# Altium footprint library MIT_Pcblib.PcbLib: 41 footprints (part 3 of 3)
Each footprint in its own frame and in the unit in brackets; x right, y up, seen from the top. Pads: shape width x height; smd on the part's side, far side on the other; paste and mask are expansions set on the pad; w line width, h text height; cw(c..) or ccw(c..) is an arc to the next point about the centre after c.
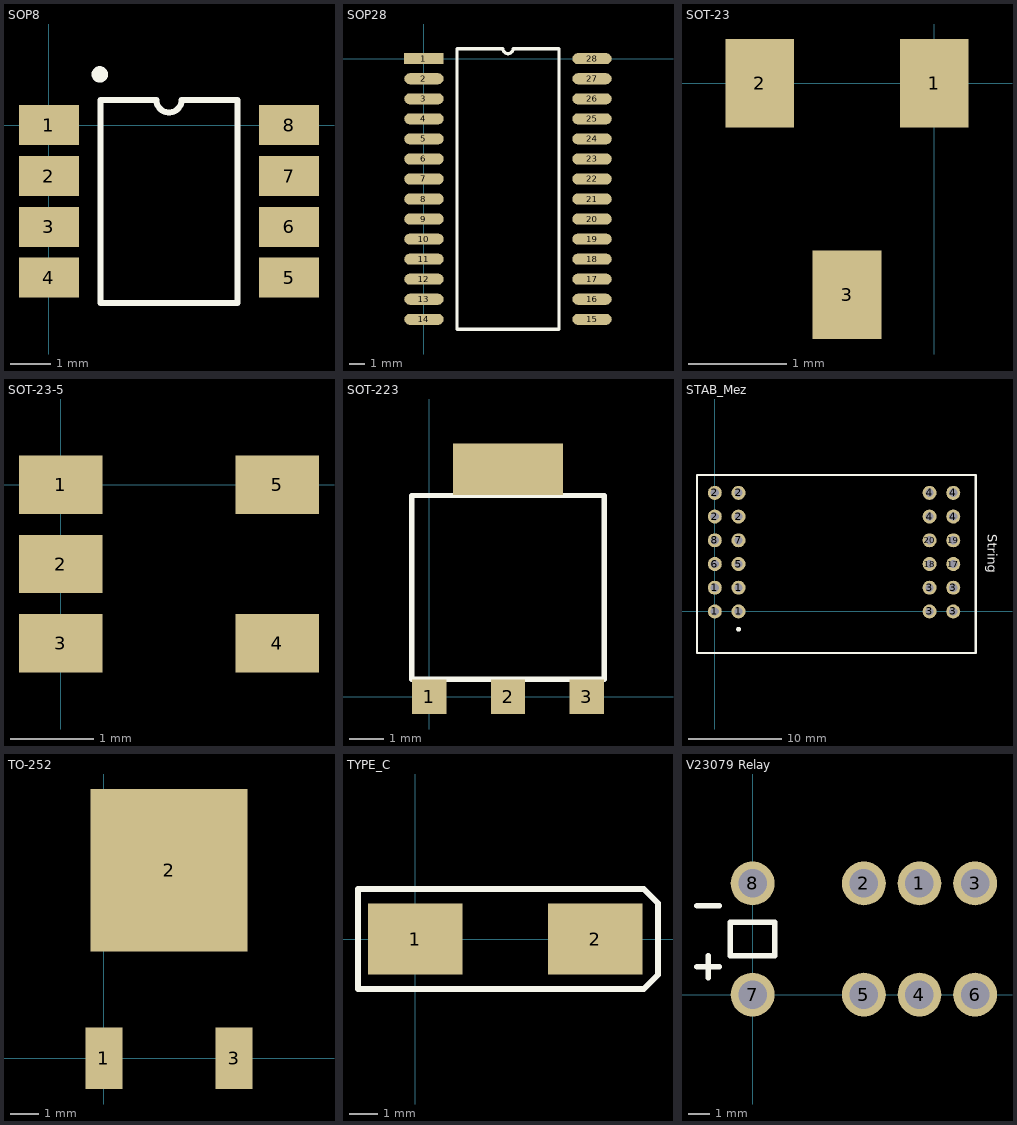
[diagram p2: the footprints below, top view; thin cyan lines are the x and y axes]

## SOP8 [mm]
pads (8):
  rect 1.5x1 smd: 1(0,0) 2(0,-1.27) 3(0,-2.54) 4(0,-3.81) 5(6,-3.81) 6(6,-2.54) 7(6,-1.27) 8(6,0)
Top Overlay:
  circle w0.21: c1.27,1.27 r0.1
  lines w0.15: 1.285,-4.445 4.715,-4.445 4.715,0.635 3.317,0.635 cw(c3,0.635) 2.682,0.635 1.285,0.635 1.285,-4.445
3D body: height 1.75, standoff 0, extent 1.284,-4.446 4.716,0.636

## SOP28 [mm]
pads (28):
  rect 2.5x0.7 smd: 1(0,0)
  oval 2.5x0.7 smd: 2(0,-1.27) 3(0,-2.54) 4(0,-3.81) 5(0,-5.08) 6(0,-6.35) 7(0,-7.62) 8(0,-8.89) 9(0,-10.16) 10(0,-11.43) 11(0,-12.7) 12(0,-13.97) 13(0,-15.24) 14(0,-16.51) 15(10.65,-16.51) 16(10.65,-15.24) 17(10.65,-13.97) 18(10.65,-12.7) 19(10.65,-11.43) 20(10.65,-10.16) 21(10.65,-8.89) 22(10.65,-7.62) 23(10.65,-6.35) 24(10.65,-5.08) 25(10.65,-3.81) 26(10.65,-2.54) 27(10.65,-1.27) 28(10.65,0)
Top Overlay:
  lines w0.2: 2.085,-17.145 2.085,0.635 5.007,0.635 ccw(c5.325,0.635) 5.642,0.635 8.565,0.635 8.565,-17.145 2.085,-17.145
3D body: height 1.8, standoff 0, extent 2.084,-17.146 8.566,0.636

## SOT-23 [mm]
pads (3):
  rect 0.7x0.9 smd: 1(0,0) 2(-1.778,0) 3(-0.889,-2.159)
3D body: height 1.45, standoff 0, extent -2.54,-2.159 0.762,0

## SOT-23-5 [mm]
pads (5):
  rect 1x0.7 smd: 1(0,0) 2(0,-0.95) 3(0,-1.9) 4(2.6,-1.9) 5(2.6,0)
3D body: height 1.45, standoff 0, extent -0.602,-2.352 3.202,0.452

## SOT-223 [mm]
pads (4):
  rect 1x1 smd: 1(0,0) 2(2.286,0) 3(4.572,0)
  rect 3.2x1.5 smd: ""(2.286,6.604)
Top Overlay:
  lines w0.15: -0.508,0.508 5.08,0.508 5.08,5.842 -0.508,5.842 -0.508,0.508
3D body: height 1.8, standoff 0, extent -0.507,0.509 5.079,5.841

## STAB_Mez [mm]
pads (24):
  round 1.5 hole 0.9: 1(0,0) 1(0,2.54) 1(2.54,0) 1(2.54,2.54) 2(0,10.16) 2(0,12.7) 2(2.54,10.16) 2(2.54,12.7) 3(22.987,0) 3(22.987,2.54) 3(25.527,0) 3(25.527,2.54) 4(22.987,10.16) 4(22.987,12.7) 4(25.527,10.16) 4(25.527,12.7) 5(2.54,5.08) 6(0,5.08) 7(2.54,7.62) 8(0,7.62) 17(25.527,5.08) 18(22.987,5.08) 19(25.527,7.62) 20(22.987,7.62)
Top Overlay:
  circle w0.254: c2.54,-1.905 r0.127
  lines w0.254: -1.905,-4.445 27.94,-4.445 27.94,14.605 -1.905,14.605 -1.905,-4.445
  text "String" at 29.21,8.255 h1

## TO-252 [mm]
pads (3):
  rect 1.3x2.15 smd: 1(0,0) 3(4.572,0)
  rect 5.5x5.7 smd: 2(2.286,6.604)
3D body: height 2.55, standoff 0, extent -0.752,-1.177 5.324,9.556

## TYPE_C [mm]
pads (2):
  rect 3.3x2.5 smd: 1(0,0) 2(6.3,0)
Top Overlay:
  lines w0.2: 8.25,-1.5 8.5,-1.25 8.5,1.25 8.25,1.5 ; 8.383,-1.367 8,-1.75 -2,-1.75 -2,1.75 8,1.75 8.383,1.367
3D body: height 2.5, standoff 0, extent -1.752,-1.352 8.052,1.352

## V23079 Relay [mm]
pads (8):
  round 2 hole 1.3: 1(7.62,5.08) 2(5.08,5.08) 3(10.16,5.08) 4(7.62,0) 5(5.08,0) 6(10.16,0) 7(0,0) 8(0,5.08)
Top Overlay:
  lines w0.254: -2.54,1.27 -1.524,1.27 ; -2.54,4.064 -1.524,4.064 ; -2.032,0.762 -2.032,1.778 ; -1.016,1.778 -1.016,3.302 1.016,3.302 1.016,1.778 -1.016,1.778
3D body: height 10, standoff 0, extent -1.102,-1.102 11.262,6.182